# EAGLE library part XR-6164 (library exar)
CCITT G.703 CO-DIRECTIONAL INTERFACE
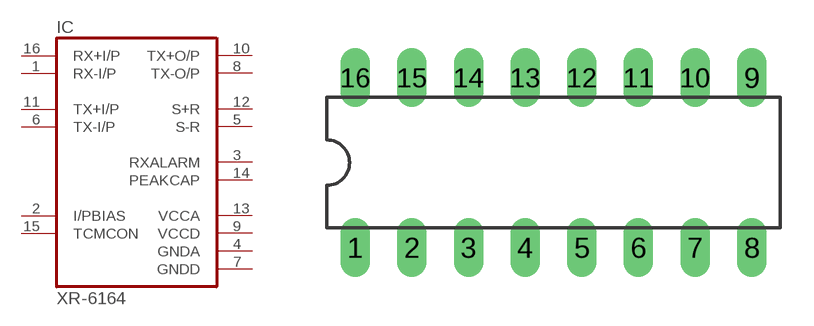
[diagram p90: symbol with the pads of DIL16; footprint DIL16]

Designator prefix IC

## XR-6164 (OC_FARNELL: unknown; OC_NEWARK: unknown)  [DIL16]
1  RX-I/P  in
2  I/PBIAS  in
3  RXALARM  out
4  GNDA  pwr
5  S-R  out
6  TX-I/P  in
7  GNDD  pwr
8  TX-O/P  out
9  VCCD  pwr
10  TX+O/P  out
11  TX+I/P  in
12  S+R  out
13  VCCA  pwr
14  PEAKCAP  out
15  TCMCON  in
16  RX+I/P  in

## Footprint DIL16 (pad centres in mm)
Dual In Line Package
drill 0.813 long: 1 -8.89,-3.81; 2 -6.35,-3.81; 3 -3.81,-3.81; 4 -1.27,-3.81; 5 1.27,-3.81; 6 3.81,-3.81; 7 6.35,-3.81; 8 8.89,-3.81; 9 8.89,3.81; 10 6.35,3.81; 11 3.81,3.81; 12 1.27,3.81; 13 -1.27,3.81; 14 -3.81,3.81; 15 -6.35,3.81; 16 -8.89,3.81